# Altium footprint library nxp.PcbLib: 1 footprints
Each footprint in its own frame and in the unit in brackets; x right, y up, seen from the top. Pads: shape width x height; smd on the part's side, far side on the other; paste and mask are expansions set on the pad; w line width, h text height; cw(c..) or ccw(c..) is an arc to the next point about the centre after c.
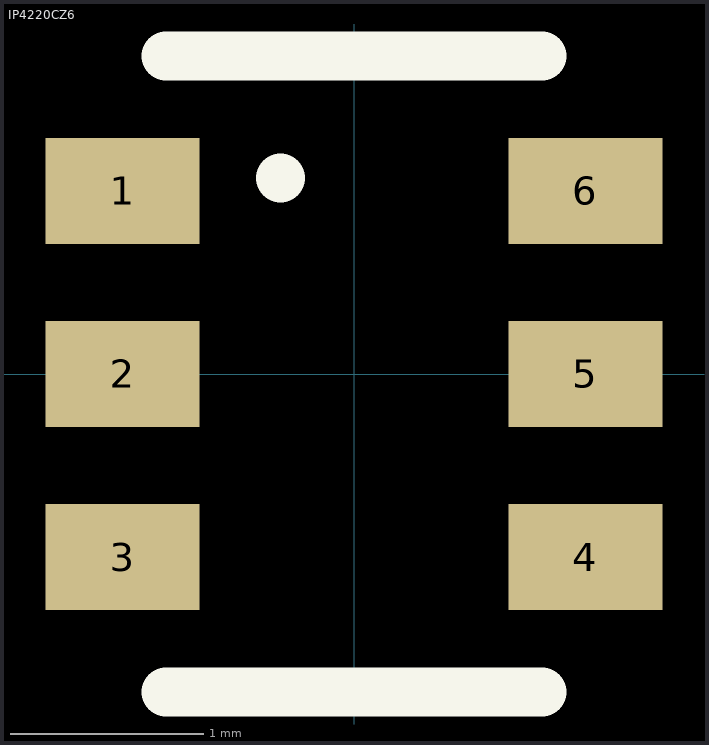
[diagram p0: the footprint, top view; thin cyan lines are the x and y axes]

## IP4220CZ6 [mm] "Dual USB 2.0 integrated ESD protection"
height 1.1
pads (6):
  rect 0.8x0.55 smd: 1(-1.2,0.95) 2(-1.2,0) 3(-1.2,-0.95) 4(1.2,-0.95) 5(1.2,0) 6(1.2,0.95)
Top Overlay:
  lines w0.254: -0.975,-1.65 0.975,-1.65 ; -0.975,1.65 0.975,1.65 ; -0.381,1.016 -0.381,1.016